# Altium integrated library ABM8-272-T3.IntLib: 2 symbols
Pins are listed as number, name and electrical type; pins without a type are passive.

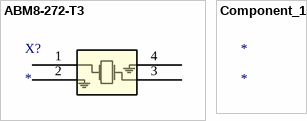
[diagram p0: symbols ABM8-272-T3 to Component_1]

## ABM8-272-T3
designator X?
No Description Available; Mfr_Name: Abracon; Type: Crystals; RefDes: RefDes
footprint ABM8-272-T3_ABR
pins: 1, 2, 3, 4

## Component_1
designator *